# Altium schematic symbol library MAX5033BASA+.Schlib: 1 symbol
Pins are listed as number, name and electrical type; pins without a type are passive.

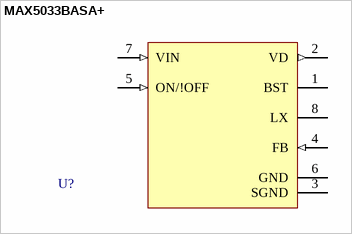
[diagram p0: symbol MAX5033BASA+]

## MAX5033BASA+
designator U?
3A Buck Regulator
pins: 1 BST, 2 VD (out), 3 SGND (power), 4 FB (in), 5 ON/!OFF (in), 6 GND (power), 7 VIN (in), 8 LX